# EAGLE library part M14 (library dr-library)
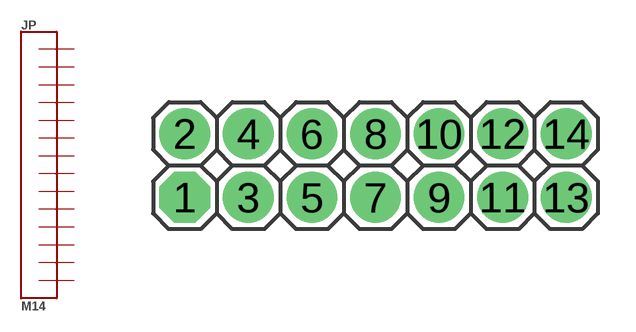
[diagram p23: symbol with the pads of 2X07; footprint 2X07]

Designator prefix JP

## M142ROWS  [2X07]
1  1
2  2
3  3
4  4
5  5
6  6
7  7
8  8
9  9
10  10
11  11
12  12
13  13
14  14

## Footprint 2X07 (pad centres in mm)
PIN HEADER
drill 1.016 pad 2.032 octagon: 1 -6.35,-1.27
drill 1.016 pad 2.032: 2 -6.35,1.27; 3 -3.81,-1.27; 4 -3.81,1.27; 5 -1.27,-1.27; 6 -1.27,1.27; 7 1.27,-1.27; 8 1.27,1.27; 9 3.81,-1.27; 10 3.81,1.27; 11 6.35,-1.27; 12 6.35,1.27; 13 8.89,-1.27; 14 8.89,1.27